# EAGLE library part LTC4065 (library heck)
Standalone 750mA Li-Ion Battery Charger
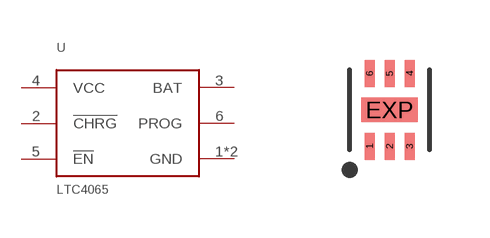
[diagram p35: symbol with the pads of DFN-6; footprint DFN-6]

Designator prefix U

## LTC4065  [DFN-6]
1  GND
2  !CHRG!
3  BAT
4  VCC
5  !EN!
6  PROG
EXP  GND

## Footprint DFN-6 (pad centres in mm)
smd 0.25 x 0.675: 1 -0.5,-0.912; 2 0,-0.912; 3 0.5,-0.912; 4 0.5,0.912; 5 0,0.912; 6 -0.5,0.912
smd 1.42 x 0.61: EXP 0,0